# Altium footprint library Led.PcbLib: 55 footprints (part 1 of 4)
Each footprint in its own frame and in the unit in brackets; x right, y up, seen from the top. Pads: shape width x height; smd on the part's side, far side on the other; paste and mask are expansions set on the pad; w line width, h text height; cw(c..) or ccw(c..) is an arc to the next point about the centre after c.
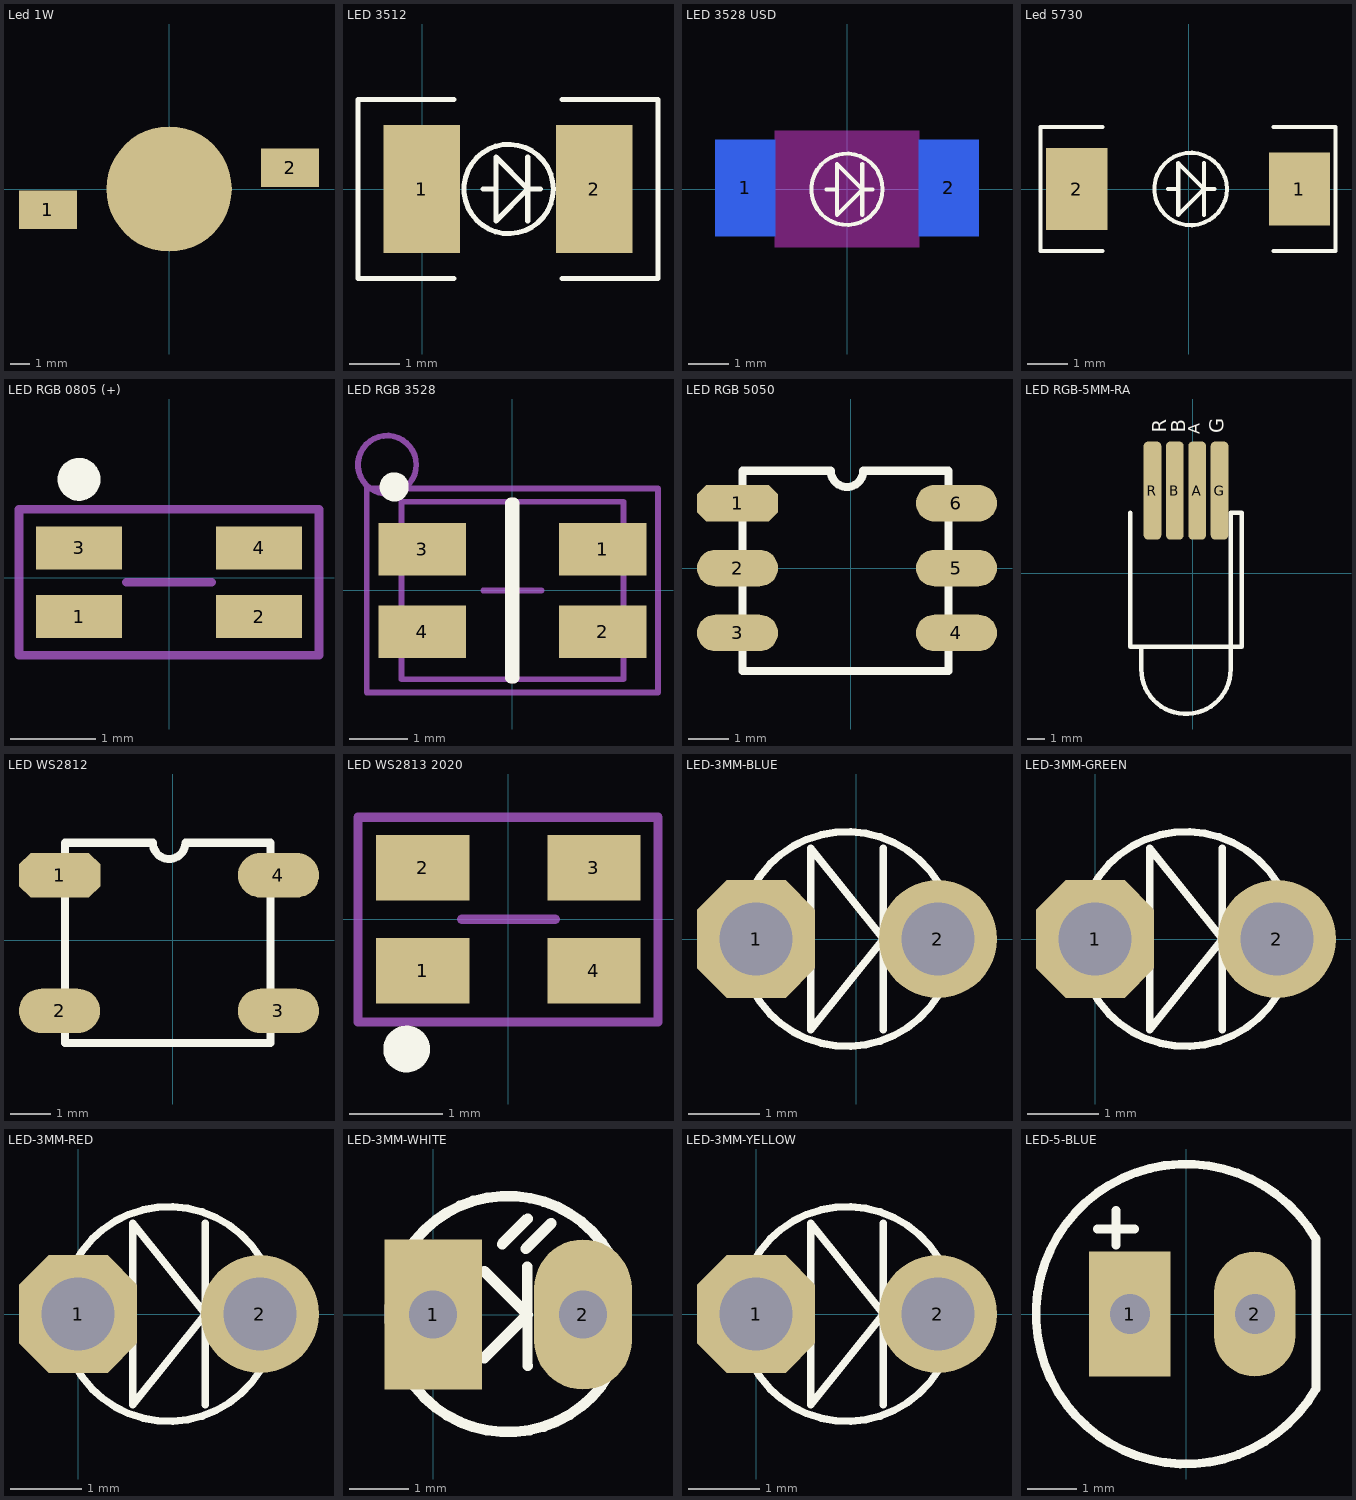
[diagram p0: the footprints below, top view; thin cyan lines are the x and y axes]

## Led 1W [mm] "Led 1,3,5W"
pads (3):
  rect 3x2 smd: 1(-6.289,-1.088) 2(6.275,1.1)
  round 6.5 smd: ""(0,0)
3D body "User Library-Power LED2.STEP": height 5.55, standoff 0, extent -7.25,-4 7.25,4

## LED 3512 [mil]
pads (2):
  rect 60x100 smd: 1(-0.2,0) 2(134.8,0)
Top Overlay:
  circle w4: c67.8,0 r35
  lines w4: 24.8,-70 -50.2,-70 -50.2,70 24.8,70 ; 82.8,-25 82.8,0 ; 82.8,25 82.8,0 ; 92.8,0 82.8,0 ; 109.8,-70 184.8,-70 184.8,70 109.8,70 ; 57.8,0 57.8,-25 82.8,0 ; 57.8,0 47.8,0 57.8,0 ; 57.8,0 57.8,25 82.8,0
3D body: height 75, standoff 70, extent 7,-50 127,50
3D body: height 61, standoff 60, extent 29.8,-10 49.8,5
3D body: height 61, standoff 60, extent 54.49,-36.96 110.14,36.96
3D body: height 65, standoff 60, extent 47,-20 87,20
3D body: height 11.81, standoff 0, extent -19.73,15 18.65,47.48
3D body: height 43.31, standoff 27.56, extent -19.73,15 -3,47.48
3D body: height 43.31, standoff 0, extent -19.73,15 -7.92,47.48
3D body: height 19.68, standoff 0, extent 39.8,-60 94.8,60
3D body: height 60, standoff 15, extent -3,-60 137.2,60
3D body: height 61, standoff 60, extent -3,37.2 19.8,60
3D body: height 75, standoff 60, extent -3,-60 137.2,60
3D body: height 43.31, standoff 0, extent -19.73,-47.48 -7.92,-15
3D body: height 43.31, standoff 27.56, extent -19.73,-47.48 -3,-15
3D body: height 11.81, standoff 0, extent -19.73,-47.48 18.65,-15
3D body: height 11.81, standoff 0, extent 116.35,15 154.73,47.48
3D body: height 43.31, standoff 27.56, extent 138,15 154.73,47.48
3D body: height 43.31, standoff 0, extent 142.92,15 154.73,47.48
3D body: height 43.31, standoff 0, extent 142.92,-47.48 154.73,-15
3D body: height 43.31, standoff 27.56, extent 138,-47.48 154.73,-15
3D body: height 11.81, standoff 0, extent 116.35,-47.48 154.73,-15

## LED 3528 USD [mm]
pads (2):
  rect 1.5x2.4 smd far side: 1(-2.54,0.034) 2(2.54,0.034)
Top Overlay:
  circle w0.102: c0,0 r0.889
  lines w0.102: 0.381,-0.635 0.381,0 ; 0.381,0.635 0.381,0 ; 0.635,0 0.381,0 ; -0.254,0 -0.254,-0.635 0.381,0 ; -0.254,0 -0.508,0 -0.254,0 ; -0.254,0 -0.254,0.635 0.381,0
Keep-Out Layer:
  board cut-out: -1.802,-1.442 -1.802,1.458 1.798,1.458 1.798,-1.442
3D body "User Library-3528.step": height 1.1, standoff -0.7, extent -1.75,-1.39 1.75,1.41

## Led 5730 [mm] "0.5W led"
pads (2):
  rect 1.5x1.8 smd: 1(2.711,0)
  rect 1.5x2 smd: 2(-2.75,0)
Top Overlay:
  circle w0.102: c0.044,0 r0.889
  lines w0.102: -2.115,-1.524 -3.639,-1.524 -3.639,1.524 -2.115,1.524 ; 0.374,-0.635 0.374,0 ; 0.374,0.635 0.374,0 ; 0.628,0 0.374,0 ; 2.076,-1.524 3.6,-1.524 3.6,1.524 2.076,1.524 ; -0.261,0 -0.261,-0.635 0.374,0 ; -0.261,0 -0.515,0 -0.261,0 ; -0.261,0 -0.261,0.635 0.374,0
3D body "User Library-PLCC-2white.STEP": height 0.9, standoff 0, extent -2.9,-1.5 2.8,1.5

## LED RGB 0805 (+) [mm]
pads (4):
  rect 1x0.5 smd: 1(-1.05,-0.45) 2(1.05,-0.45) 3(-1.05,0.35) 4(1.05,0.35)
Top Overlay:
  circle w0.25: c-1.05,1.15 r0.125
Mechanical 1:
  lines w0.1: -1.75,-0.9 -1.75,0.8 1.75,0.8 1.75,-0.9 -1.75,-0.9
Mechanical 15:
  lines w0.1: -0.5,-0.05 0.5,-0.05
3D body "User Library-shuangsedeng15.STEP": height 1, standoff 0, extent -1.008,-0.638 0.991,0.557

## LED RGB 3528 [mm] "Chip LED, 4-Leads, Body 2.8x3.5mm (max), Pitch 1.42mm, IPC Medium Density"
height 1.9
pads (4):
  rect 1.5x0.9 smd: 1(1.55,0.707) 2(1.55,-0.71) 3(-1.55,0.707) 4(-1.55,-0.707)
Top Overlay:
  circle w0.25: c-2.03,1.778 r0.125
  lines w0.2: -0.025,-1.5 -0.025,1.5 0.025,1.5 0.025,-1.5 -0.025,-1.5
Mechanical 13:
  circle w0.1: c-2.151,2.159 r0.5
  lines w0.1: -1.905,-1.524 -1.905,1.524 1.905,1.524 1.905,-1.524 -1.905,-1.524
Mechanical 15:
  lines w0.1: -0.5,0 0.5,0 ; 0,-0.5 0,0.5 ; -2.5,-1.75 -2.5,1.75 2.5,1.75 2.5,-1.75 -2.5,-1.75
3D body "WL-SBTW_1411_RV.stp": height 1.87, standoff -0.03, extent -1.75,-1.4 1.75,1.4

## LED RGB 5050 [mm]
pads (6):
  oct 2x0.9 smd: 1(-2.794,1.6)
  oval 2x0.9 smd: 2(-2.794,0) 3(-2.794,-1.6) 4(2.606,-1.6) 5(2.606,0) 6(2.606,1.6)
Top Overlay:
  lines w0.2: -2.667,-2.54 2.413,-2.54 2.413,2.4 0.306,2.4 cw(c-0.094,2.4) -0.494,2.4 -2.667,2.4 -2.667,-2.54
3D body "User Library-smd_led_5050.step": height 1.6, standoff 0, extent -2.777,-2.54 2.523,2.46

## LED RGB-5MM-RA [mil] "LED RGB Right Angle 5mm"
height 5
pads (4):
  rrect50% 39.37x220 smd paste+1.5 mask+1.5: A(10,185) B(-40,185) G(60,185) R(-90,185)
Top Overlay:
  lines w10: -140,135 -140,-165 110,-165 110,135 85,135 85,-165 85,-215 cw(c-15,-215) -115,-215 -115,-165
  text "G" at 69.77,313.32 h31.5
  text "A" at 24.77,311.4 h45
  text "R" at -58.97,314.49 h31.5
  text "B" at -16.79,314.49 h31.5
3D body: height 100, standoff -100, extent -115.18,-301.8 83.78,-102.65
3D body: height 99.8, standoff -99.8, extent -115.3,-198.8 83.91,1.2
3D body: height 5, standoff 0, extent -105.68,-298.7 74.45,281.58

## LED WS2812 [mm] "LED WS2812 RGB 5050"
pads (4):
  oct 2x1.1 smd: 1(-2.794,1.6)
  oval 2x1.1 smd: 2(-2.8,-1.75) 3(2.606,-1.75) 4(2.606,1.6)
Top Overlay:
  lines w0.2: -2.667,-2.54 2.413,-2.54 2.413,2.4 0.306,2.4 cw(c-0.094,2.4) -0.494,2.4 -2.667,2.4 -2.667,-2.54
3D body "User Library-ws2812B-1.STEP": height 1.6, standoff 0.03, extent -2.85,-2.6 2.55,2.4

## LED WS2813 2020 [mm] "2020 Size"
height 0.84
pads (4):
  rect 1x0.7 smd: 1(-0.915,-0.55) 2(-0.915,0.55) 3(0.915,0.55) 4(0.915,-0.55)
Top Overlay:
  circle w0.25: c-1.09,-1.39 r0.125
Mechanical 1:
  lines w0.1: -1.61,-1.1 1.6,-1.1 1.6,1.09 -1.61,1.09 -1.61,-1.1
Mechanical 15:
  lines w0.1: -0.5,0 0.5,0
3D body "User Library-WS2812-2020.step": height 0.84, standoff 0, extent -1.1,-1 1.1,1

## LED-3MM-BLUE [mil]
pads (2):
  oct 65x65 hole 40: 1(-55,0)
  round 65 hole 40: 2(45,0)
Top Overlay:
  circle w4: c-5,0 r59.06
  lines w4: 15,-50 15,0 ; 15,50 15,0 ; 15,0 -25,-50 -25,50 15,0
3D body "User Library-LED_d3-BLU.STEP": height 184.06, standoff -110.24, extent -72.46,-64.95 54.06,64.96

## LED-3MM-GREEN [mil]
pads (2):
  oct 65x65 hole 40: 1(0,0)
  round 65 hole 40: 2(100,0)
Top Overlay:
  circle w4: c50,0 r59.06
  lines w4: 70,-50 70,0 ; 70,50 70,0 ; 70,0 30,50 30,-50 70,0
3D body "User Library-LED_d3-GRN.STEP": height 182.09, standoff -112.2, extent -15,-69.91 111.51,60

## LED-3MM-RED [mil]
pads (2):
  oct 65x65 hole 40: 1(0,0)
  round 65 hole 40: 2(100,0)
Top Overlay:
  circle w4: c50,0 r59.06
  lines w4: 70,-50 70,0 ; 70,50 70,0 ; 70,0 30,-50 30,50 70,0
3D body "User Library-LED-D3R.step": height 181.1, standoff -255.91, extent -27.18,-77.48 117.18,80

## LED-3MM-WHITE [mil] "LED 2 PIN, 3ly Only colour"
height 300
pads (2):
  rect 65x100 hole 32: 1(0,0)
  oval 65x100 hole 32: 2(100,0)
Top Overlay:
  lines w7: 34,-29 63,0 34,29 ; 46,47 63,64 ; 62,44 79,61 ; 63,-34 63,32 ; 117.92,-39.35 117.92,39.84
  lines w7.01: 117.57,-39.74 cw(c49.8,0.35) 117.72,40.19
3D body "SW3DPS-LED DIP 3MM-DEFAULT.STEP": height 217.14, standoff -117.51, extent -24.8,-74.81 112.99,74.8

## LED-3MM-YELLOW [mil]
pads (2):
  oct 65x65 hole 40: 1(0,0)
  round 65 hole 40: 2(100,0)
Top Overlay:
  circle w4: c50,0 r59.06
  lines w4: 70,-50 70,0 ; 70,50 70,0 ; 70,0 30,-50 30,50 70,0
3D body "User Library-LED-D3Y.step": height 181.1, standoff -255.91, extent -27.18,-77.48 117.18,80

## LED-5-BLUE [mil] "LED 2 PIN, 5 ly , Only colour, pin to pin 110mil"
height 300
pads (2):
  rect 65x100 hole 32: 1(-45,0)
  oval 65x100 hole 32: 2(55,0)
Top Overlay:
  lines w7: -71,68 -41,68 ; -56,55 -56,83 ; 103.51,60.71 ccw(c0,0) 103.94,-59.97 ; 104,-59 104,60
3D body "User Library-LEDd5B.STEP": height 339.18, standoff -243.49, extent -113.31,-120.49 100.08,116.5